# Altium footprint library PcbLib1.PcbLib: 1 footprints
Each footprint in its own frame and in the unit in brackets; x right, y up, seen from the top. Pads: shape width x height; smd on the part's side, far side on the other; paste and mask are expansions set on the pad; w line width, h text height; cw(c..) or ccw(c..) is an arc to the next point about the centre after c.
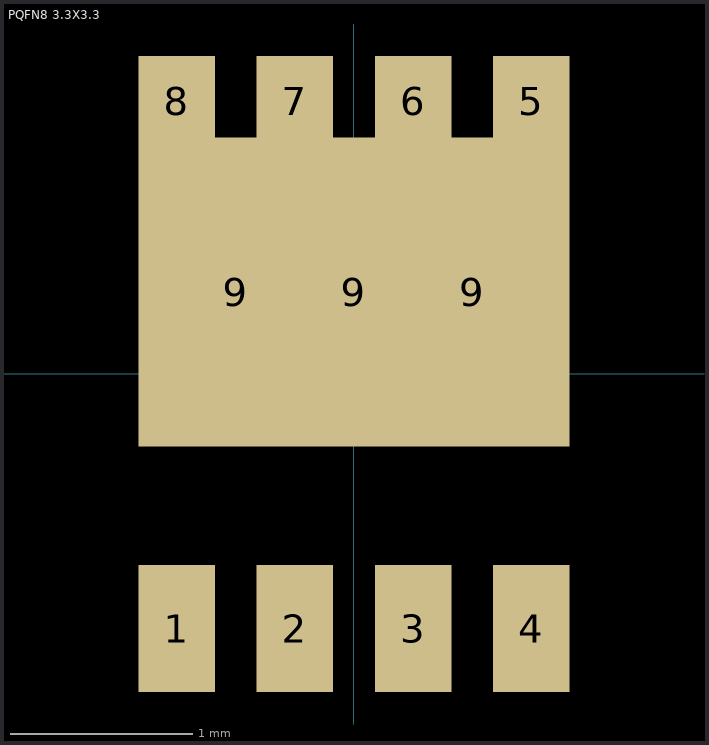
[diagram p0: the footprint, top view; thin cyan lines are the x and y axes]

## PQFN8 3.3X3.3 [mm]
pads (11):
  rect 0.42x0.7 smd: 1(-0.975,-1.4) 2(-0.325,-1.4) 3(0.325,-1.4) 4(0.975,-1.4)
  rect 0.42x0.5 smd: 5(0.975,1.5) 6(0.325,1.5) 7(-0.325,1.5) 8(-0.975,1.5)
  rect 0.7x1 smd: 9(-0.65,0.45) 9(0.65,0.45)
  rect 2.37x1.7 smd paste-10: 9(0,0.45)
3D body "PQFN8.STEP": height 0.8, standoff -0.05, extent -1.65,-1.65 1.65,1.65